# EAGLE library part LCD (library av_display)
LCD-AG-C128064CF-FHW K/W-E6 PBF Kupiony w ARTRONIC. Wy?wietlacz graficzny 128x64. 128x64 COG TYPE kontrast!!! THT PINS FSTN 3.3V ST7565R separate ECO backlight 15mA only !!!
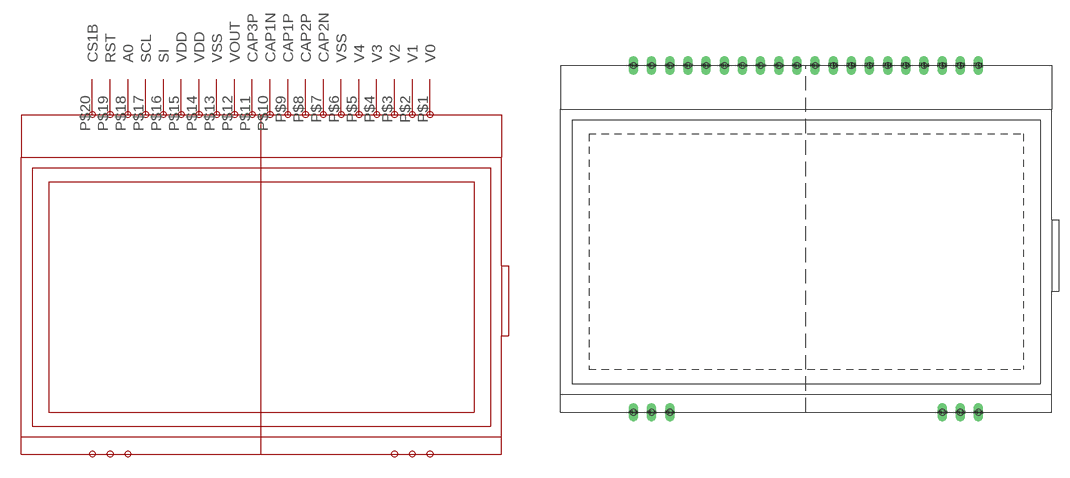
[diagram p0: symbol with the pads of LCD; footprint LCD]

Designator prefix -

## LCD  [LCD]
P$1  V0
P$2  V1
P$3  V2
P$4  V3
P$5  V4
P$6  VSS
P$7  CAP2N
P$8  CAP2P
P$9  CAP1P
P$10  CAP1N
P$11  CAP3P
P$12  VOUT
P$13  VSS
P$14  VDD
P$15  VDD
P$16  SI
P$17  SCL
P$18  A0
P$19  RST
P$20  CS1B

## Footprint LCD (pad centres in mm)
drill 0.8 long: P$1 58.471,48.489; P$2 55.931,48.489; P$3 53.391,48.489; P$4 50.851,48.489; P$5 48.311,48.489; P$6 45.771,48.489; P$7 43.231,48.489; P$8 40.691,48.489; P$9 38.151,48.489; P$10 35.611,48.489; P$11 33.071,48.489; P$12 30.531,48.489; P$13 27.991,48.489; P$14 25.451,48.489; P$15 22.911,48.489; P$16 20.371,48.489; P$17 17.831,48.489; P$18 15.291,48.489; P$19 12.751,48.489; P$20 10.211,48.489; P$21 58.471,0; P$22 55.931,0; P$23 53.391,0; P$24 15.291,0; P$25 12.751,0; P$26 10.211,0